# EAGLE library part DRV8816PWPR (library DRV8816POWPR)
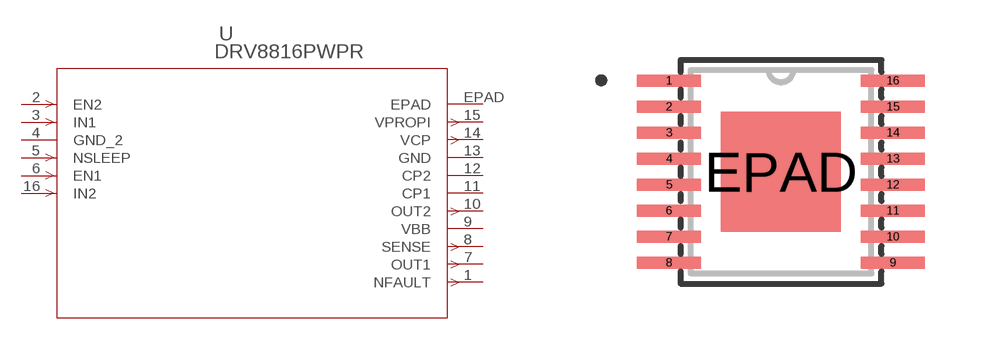
[diagram p0: symbol with the pads of PWP_16; footprint PWP_16]

Designator prefix U

## DRV8816PWPR (MANUFACTURER_PART_NUMBER: DRV8816PWPR; VENDOR: Texas Instruments)  [PWP_16]
1  NFAULT  out
2  EN2  in
3  IN1  in
4  GND_2  pwr
5  NSLEEP  in
6  EN1  in
7  OUT1  out
8  SENSE  out
9  VBB  pwr
10  OUT2  out
11  CP1  pas
12  CP2  pas
13  GND  pwr
14  VCP  out
15  VPROPI  out
16  IN2  in
EPAD  EPAD  pas

## Footprint PWP_16 (pad centres in mm)
smd 1.6 x 0.3: 1 -2.8,2.275; 2 -2.8,1.625; 3 -2.8,0.975; 4 -2.8,0.325; 5 -2.8,-0.325; 6 -2.8,-0.975; 7 -2.8,-1.625; 8 -2.8,-2.275; 9 2.8,-2.275; 10 2.8,-1.625; 11 2.8,-0.975; 12 2.8,-0.325; 13 2.8,0.325; 14 2.8,0.975; 15 2.8,1.625; 16 2.8,2.275
smd 3 x 3: EPAD 0,0